# EAGLE library part MCP16311 (library Microchip)
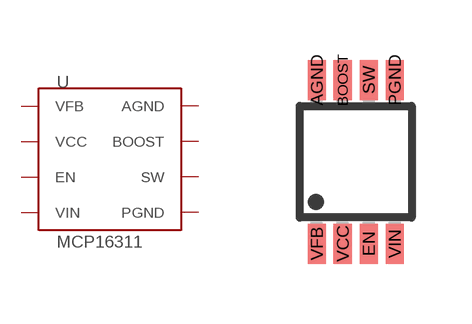
[diagram p145: symbol with the pads of MSOP8; footprint MSOP8]

Designator prefix U

## MCP16311  [MSOP8]
AGND  AGND
BOOST  BOOST
EN  EN
PGND  PGND
SW  SW
VCC  VCC
VFB  VFB
VIN  VIN

## Footprint MSOP8 (pad centres in mm)
Micro Small Outline Package Grid 0.65mm Source: http://ww1.microchip.com/downloads/en/DeviceDoc/21796H.pdf
smd 0.45 x 1: AGND -0.975,2.05; BOOST -0.325,2.05; EN 0.325,-2.05; PGND 0.975,2.05; SW 0.325,2.05; VCC -0.325,-2.05; VFB -0.975,-2.05; VIN 0.975,-2.05